# Altium footprint library LED.PcbLib: 15 footprints
Each footprint in its own frame and in the unit in brackets; x right, y up, seen from the top. Pads: shape width x height; smd on the part's side, far side on the other; paste and mask are expansions set on the pad; w line width, h text height; cw(c..) or ccw(c..) is an arc to the next point about the centre after c.
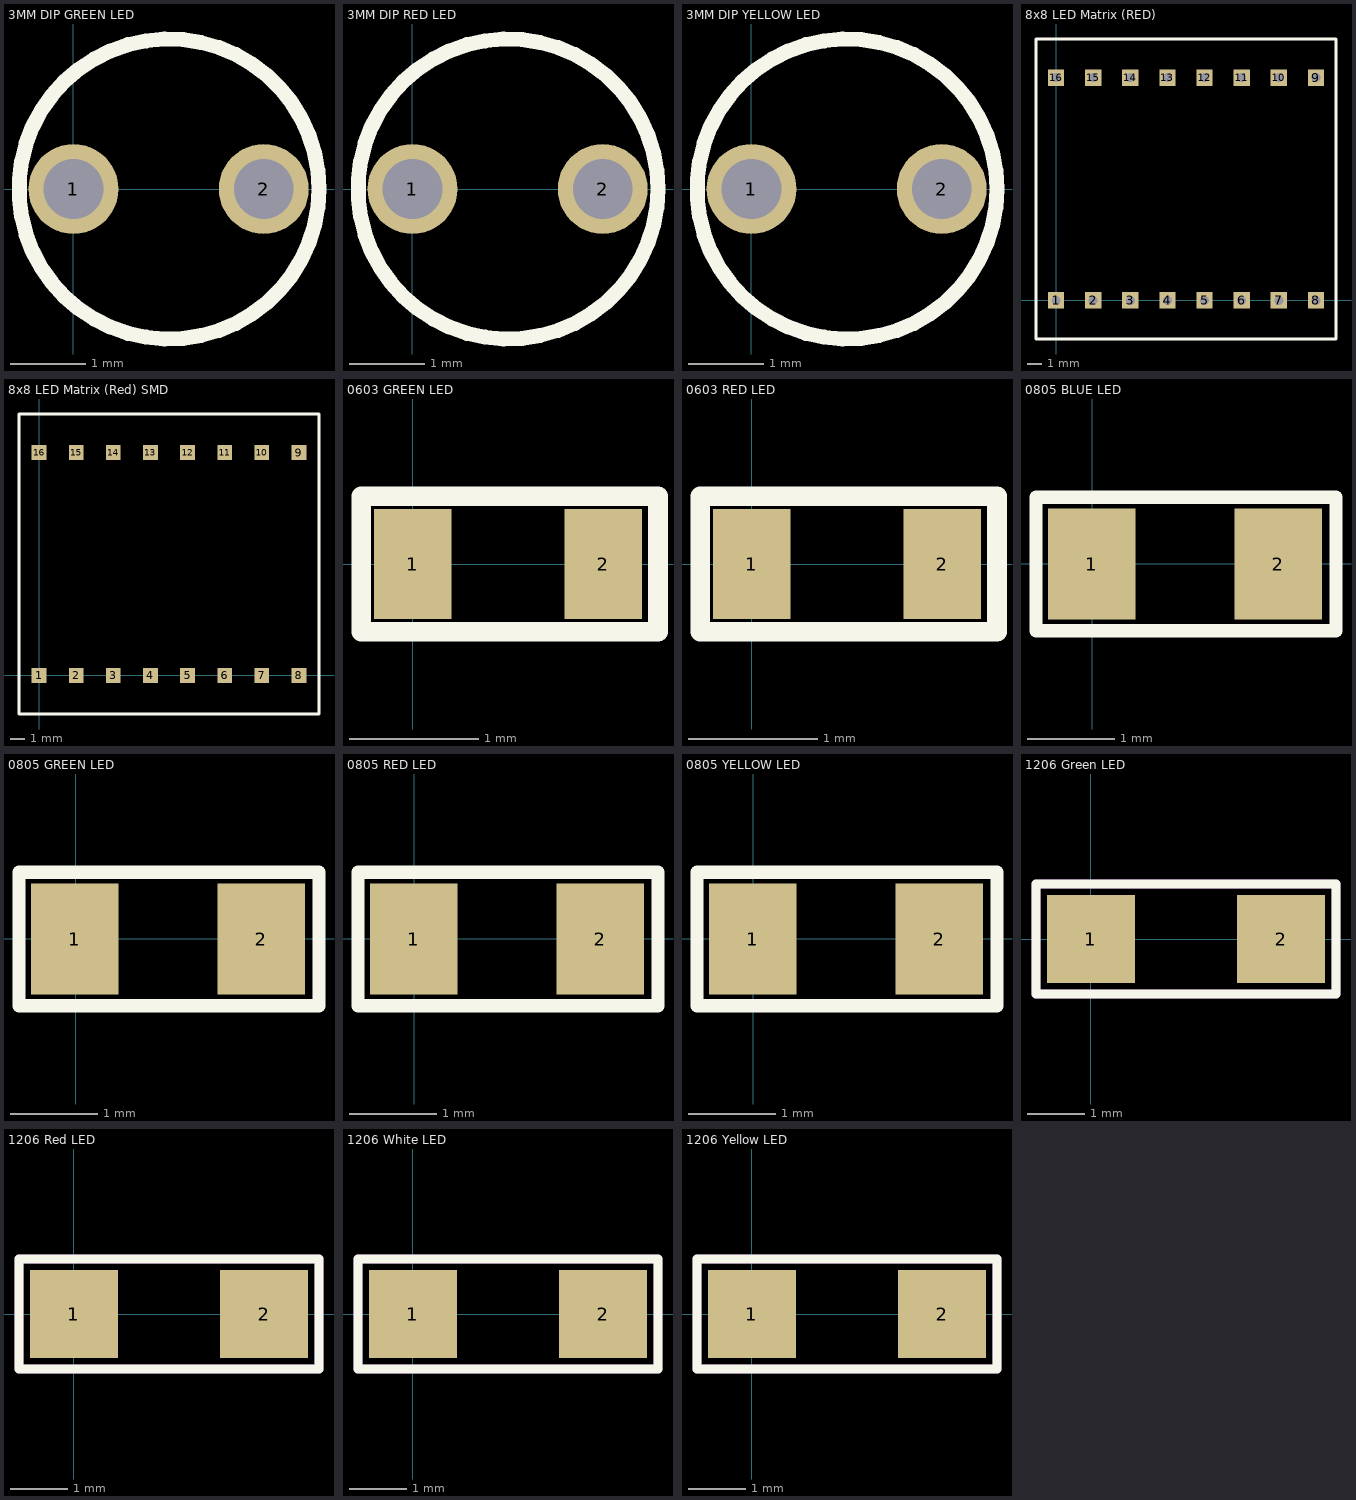
[diagram p0: the footprints below, top view; thin cyan lines are the x and y axes]

## 3MM DIP GREEN LED [mm]
pads (2):
  round 1.2 hole 0.8: 1(0,0) 2(2.54,0)
Top Overlay:
  circle w0.2: c1.275,0 r2.003
3D body: height 5.51, standoff -2.49, extent -0.375,-1.65 2.925,1.639

## 3MM DIP RED LED [mm]
pads (2):
  round 1.2 hole 0.8: 1(0,0) 2(2.54,0)
Top Overlay:
  circle w0.2: c1.275,0 r2.003
3D body: height 5.51, standoff -2.49, extent -0.375,-1.65 2.925,1.639

## 3MM DIP YELLOW LED [mm]
pads (2):
  round 1.2 hole 0.8: 1(0,0) 2(2.54,0)
Top Overlay:
  circle w0.2: c1.275,0 r2.003
3D body: height 5.51, standoff -2.49, extent -0.375,-1.65 2.925,1.639

## 8x8 LED Matrix (RED) [mm]
pads (16):
  rect 1.1x1.1 hole 0.6: 1(0,0) 2(2.5,0) 3(5,0) 4(7.5,0) 5(10,0) 6(12.5,0) 7(15,0) 8(17.5,0) 9(17.5,15) 10(15,15) 11(12.5,15) 12(10,15) 13(7.5,15) 14(5,15) 15(2.5,15) 16(0,15)
Top Overlay:
  lines w0.2: -1.35,-2.6 18.85,-2.6 18.85,17.6 -1.35,17.6 -1.35,-2.6

## 8x8 LED Matrix (Red) SMD [mm]
pads (16):
  rect 1x1 smd: 1(0,0) 2(2.5,0) 3(5,0) 4(7.5,0) 5(10,0) 6(12.5,0) 7(15,0) 8(17.5,0) 9(17.5,15) 10(15,15) 11(12.5,15) 12(10,15) 13(7.5,15) 14(5,15) 15(2.5,15) 16(0,15)
Top Overlay:
  lines w0.2: -1.35,-2.6 -1.35,17.6 18.85,17.6 18.85,-2.6 -1.35,-2.6

## 0603 GREEN LED [mm]
pads (2):
  rect 0.6x0.85 smd: 1(0,0) 2(1.475,0)
Top Overlay:
  lines w0.152: -0.4,-0.525 1.9,-0.525 1.9,0.525 -0.4,0.525 -0.4,-0.525
3D body: height 0.9, standoff 0, extent -0.125,-0.45 1.575,0.45

## 0603 RED LED [mm]
pads (2):
  rect 0.6x0.85 smd: 1(0,0) 2(1.475,0)
Top Overlay:
  lines w0.152: -0.4,-0.525 1.9,-0.525 1.9,0.525 -0.4,0.525 -0.4,-0.525
3D body: height 0.9, standoff 0, extent -0.125,-0.45 1.575,0.45

## 0805 BLUE LED [mm]
pads (2):
  rect 1x1.27 smd: 1(-0.006,0) 2(2.127,0)
Top Overlay:
  lines w0.152: -0.641,-0.762 2.788,-0.762 2.788,0.762 -0.641,0.762 -0.641,-0.762
3D body: height 1.1, standoff 0, extent 0,-0.625 2.02,0.625

## 0805 GREEN LED [mm]
pads (2):
  rect 1x1.27 smd: 1(-0.016,0) 2(2.118,0)
Top Overlay:
  lines w0.152: -0.651,-0.762 2.778,-0.762 2.778,0.762 -0.651,0.762 -0.651,-0.762
3D body: height 1.1, standoff 0, extent -0.01,-0.625 2.01,0.625

## 0805 RED LED [mm]
pads (2):
  rect 1x1.27 smd: 1(-0.006,0) 2(2.127,0)
Top Overlay:
  lines w0.152: -0.641,-0.762 -0.641,0.762 2.788,0.762 2.788,-0.762 -0.641,-0.762
3D body: height 1.1, standoff 0, extent 0,-0.625 2.02,0.625

## 0805 YELLOW LED [mm]
pads (2):
  rect 1x1.27 smd: 1(-0.006,0) 2(2.127,0)
Top Overlay:
  lines w0.152: -0.641,-0.762 -0.641,0.762 2.788,0.762 2.788,-0.762 -0.641,-0.762
3D body: height 1.1, standoff 0, extent 0,-0.625 2.02,0.625

## 1206 Green LED [mil]
pads (2):
  rect 60x60 smd: 1(0,0) 2(130,0)
Top Overlay:
  lines w6: -37.5,-37.5 -37.5,37.5 167.5,37.5 167.5,-37.5 -37.5,-37.5
Mechanical 16:
  lines w6: -37.5,-37.5 167.5,-37.5 167.5,37.5 -37.5,37.5 -37.5,-37.5
3D body: height 43.81, standoff -15.9, extent 2,-32 128,31

## 1206 Red LED [mil]
pads (2):
  rect 60x60 smd: 1(0,0) 2(130,0)
Top Overlay:
  lines w6: -37.5,-37.5 -37.5,37.5 167.5,37.5 167.5,-37.5 -37.5,-37.5
Mechanical 16:
  lines w6: -37.5,-37.5 167.5,-37.5 167.5,37.5 -37.5,37.5 -37.5,-37.5
3D body: height 43.81, standoff -15.9, extent 2,-32 128,31

## 1206 White LED [mil]
pads (2):
  rect 60x60 smd: 1(0,0) 2(130,0)
Top Overlay:
  lines w6: -37.5,-37.5 167.5,-37.5 167.5,37.5 -37.5,37.5 -37.5,-37.5
Mechanical 16:
  lines w6: -37.5,-37.5 -37.5,37.5 167.5,37.5 167.5,-37.5 -37.5,-37.5
3D body: height 43.31, standoff 0, extent -2.99,-31.5 123,31.49

## 1206 Yellow LED [mil]
pads (2):
  rect 60x60 smd: 1(0,0) 2(130,0)
Top Overlay:
  lines w6: -37.5,-37.5 167.5,-37.5 167.5,37.5 -37.5,37.5 -37.5,-37.5
Mechanical 16:
  lines w6: -37.5,-37.5 -37.5,37.5 167.5,37.5 167.5,-37.5 -37.5,-37.5
3D body: height 43.81, standoff -15.9, extent 2,-32 128,31